# EAGLE library part DISPLAY128X128 (library Display 128x128)
LCD 1.44" Red Serial 128X128 SPI Color TFT LCD Display Module for Nokia 15XX Product information Description： 100% brand new and high quality 1.44-inch screen with SPI serial backplane module, a minimum of only four IO-driven resolution 128 * 128 Spike NOKIA 15XX, perfect upgrade true color Size: 1.44 inch SPI serial bus Resolution 128 * 128 Package Include:
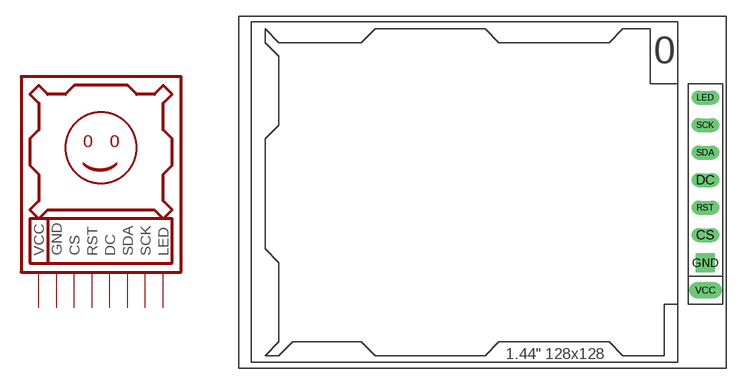
[diagram p0: symbol with the pads of DISPLAY128X128; footprint DISPLAY128X128]

Designator prefix DISPLAY

## DISPLAY128X128  [DISPLAY128X128]
CS  CS
DC  DC
GND  GND  sup
LED  LED  in
RST  RST  in
SCK  SCK
SDA  SDA
VCC  VCC  sup

## Footprint DISPLAY128X128 (pad centres in mm)
LCD 1.44" Red Serial 128X128 SPI Color TFT LCD Display Module for Nokia 5110 Product information Description： 100% brand new and high quality 1.44-inch screen with SPI serial backplane module, a minimum of only four IO-driven resolution 128 * 128 Spike NOKIA 5110, perfect upgrade true color Size: 1.44 inch SPI serial bus Resolution 128 * 128 Package Include:
drill 0.8 long: CS 20.32,-5.08; DC 20.32,0; LED 20.32,7.62; RST 20.32,-2.54; SCK 20.32,5.08; SDA 20.32,2.54
drill 1 pad 1.778 square: GND 20.32,-7.62
drill 1 long: VCC 20.32,-10.16